# EAGLE library part BT840 (library BT840)
Bluetooth LE Module, Nordic nRF52840 SoC, Range 180 meters Check availability <https://pricing.snapeda.com/parts/BT840/Fanstel%20Corp./view-part?ref=eda>
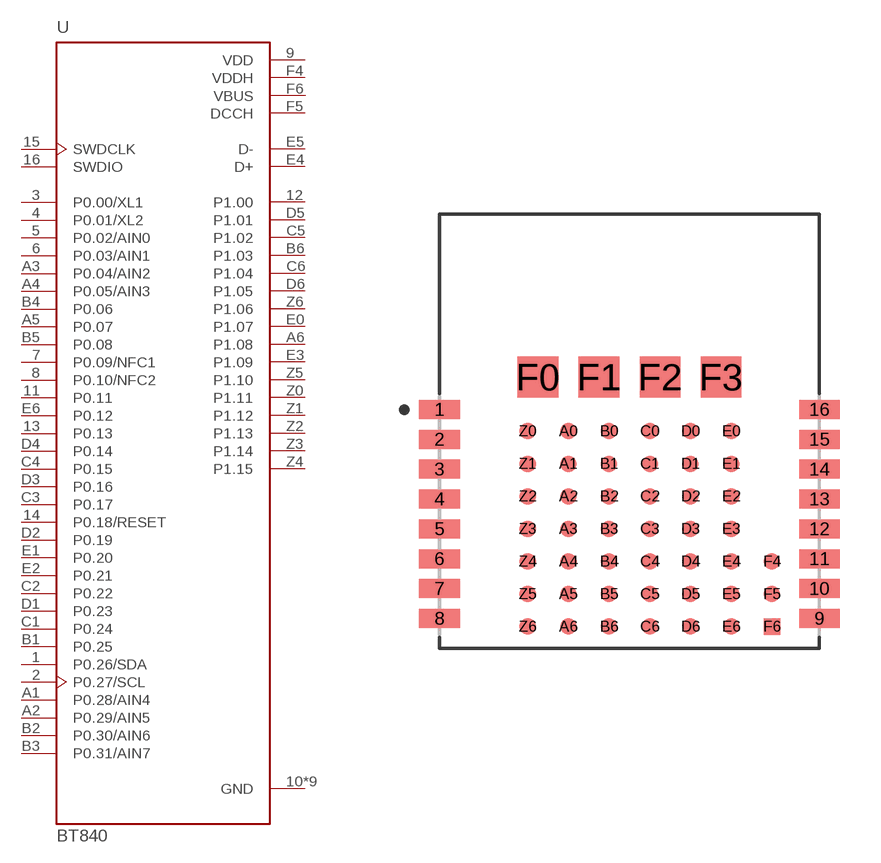
[diagram p0: symbol with the pads of XCVR_BT840; footprint XCVR_BT840]

Designator prefix U

## BT840 (Availability: In Stock; Description: 802.15.4, Bluetooth Bluetooth v5.0, Thread, Zigbee® Transceiver Module 2.4GHz Antenna Not Included, U.FL Surface Mount; MF: Fanstel Corp.; MP: BT840; Package: SMD-16 Fanstel Corp.; Price: None; Purchase-URL: https://pricing.snapeda.com/search/part/BT840/?ref=eda)  [XCVR_BT840]
1  P0.26/SDA
2  P0.27/SCL
3  P0.00/XL1
4  P0.01/XL2
5  P0.02/AIN0
6  P0.03/AIN1
7  P0.09/NFC1
8  P0.10/NFC2
9  VDD  pwr
10  GND  pwr
11  P0.11
12  P1.00
13  P0.13
14  P0.18/RESET
15  SWDCLK  in
16  SWDIO
A0  GND  pwr
A1  P0.28/AIN4
A2  P0.29/AIN5
A3  P0.04/AIN2
A4  P0.05/AIN3
A5  P0.07
A6  P1.08
B0  GND  pwr
B1  P0.25
B2  P0.30/AIN6
B3  P0.31/AIN7
B4  P0.06
B5  P0.08
B6  P1.03
C0  GND  pwr
C1  P0.24
C2  P0.22
C3  P0.17
C4  P0.15
C5  P1.02
C6  P1.04
D0  GND  pwr
D1  P0.23
D2  P0.19
D3  P0.16
D4  P0.14
D5  P1.01
D6  P1.05
E0  P1.07
E1  P0.20
E2  P0.21
E3  P1.09
E4  D+
E5  D-
E6  P0.12
F0  GND  pwr
F1  GND  pwr
F2  GND  pwr
F3  GND  pwr
F4  VDDH  pwr
F5  DCCH  pwr
F6  VBUS  pwr
Z0  P1.11
Z1  P1.12
Z2  P1.13
Z3  P1.14
Z4  P1.15
Z5  P1.10
Z6  P1.06

## Footprint XCVR_BT840 (pad centres in mm)
smd 1.5 x 0.7: 1 -7,0.8; 2 -7,-0.3; 3 -7,-1.4; 4 -7,-2.5; 5 -7,-3.6; 6 -7,-4.7; 7 -7,-5.8; 8 -7,-6.9; 9 7,-6.9; 10 7,-5.8; 11 7,-4.7; 12 7,-3.6; 13 7,-2.5; 14 7,-1.4; 15 7,-0.3; 16 7,0.8
smd 0.6 x 0.6: A0 -2.25,0; A1 -2.25,-1.2; A2 -2.25,-2.4; A3 -2.25,-3.6; A4 -2.25,-4.8; A5 -2.25,-6; A6 -2.25,-7.2; B0 -0.75,0; B1 -0.75,-1.2; B2 -0.75,-2.4; B3 -0.75,-3.6; B4 -0.75,-4.8; B5 -0.75,-6; B6 -0.75,-7.2; C0 0.75,0; C1 0.75,-1.2; C2 0.75,-2.4; C3 0.75,-3.6; C4 0.75,-4.8; C5 0.75,-6; C6 0.75,-7.2; D0 2.25,0; D1 2.25,-1.2; D2 2.25,-2.4; D3 2.25,-3.6; D4 2.25,-4.8; D5 2.25,-6; D6 2.25,-7.2; E0 3.75,0; E1 3.75,-1.2; E2 3.75,-2.4; E3 3.75,-3.6; E4 3.75,-4.8; E5 3.75,-6; E6 3.75,-7.2; F4 5.25,-4.8; F5 5.25,-6; F6 5.25,-7.2; Z0 -3.75,0; Z1 -3.75,-1.2; Z2 -3.75,-2.4; Z3 -3.75,-3.6; Z4 -3.75,-4.8; Z5 -3.75,-6; Z6 -3.75,-7.2
smd 1.5 x 1.5: F0 -3.375,2; F1 -1.125,2; F2 1.125,2; F3 3.375,2